# Altium schematic symbol library crdio_schlib.schlib: 15 symbols
Pins are listed as number, name and electrical type; pins without a type are passive.

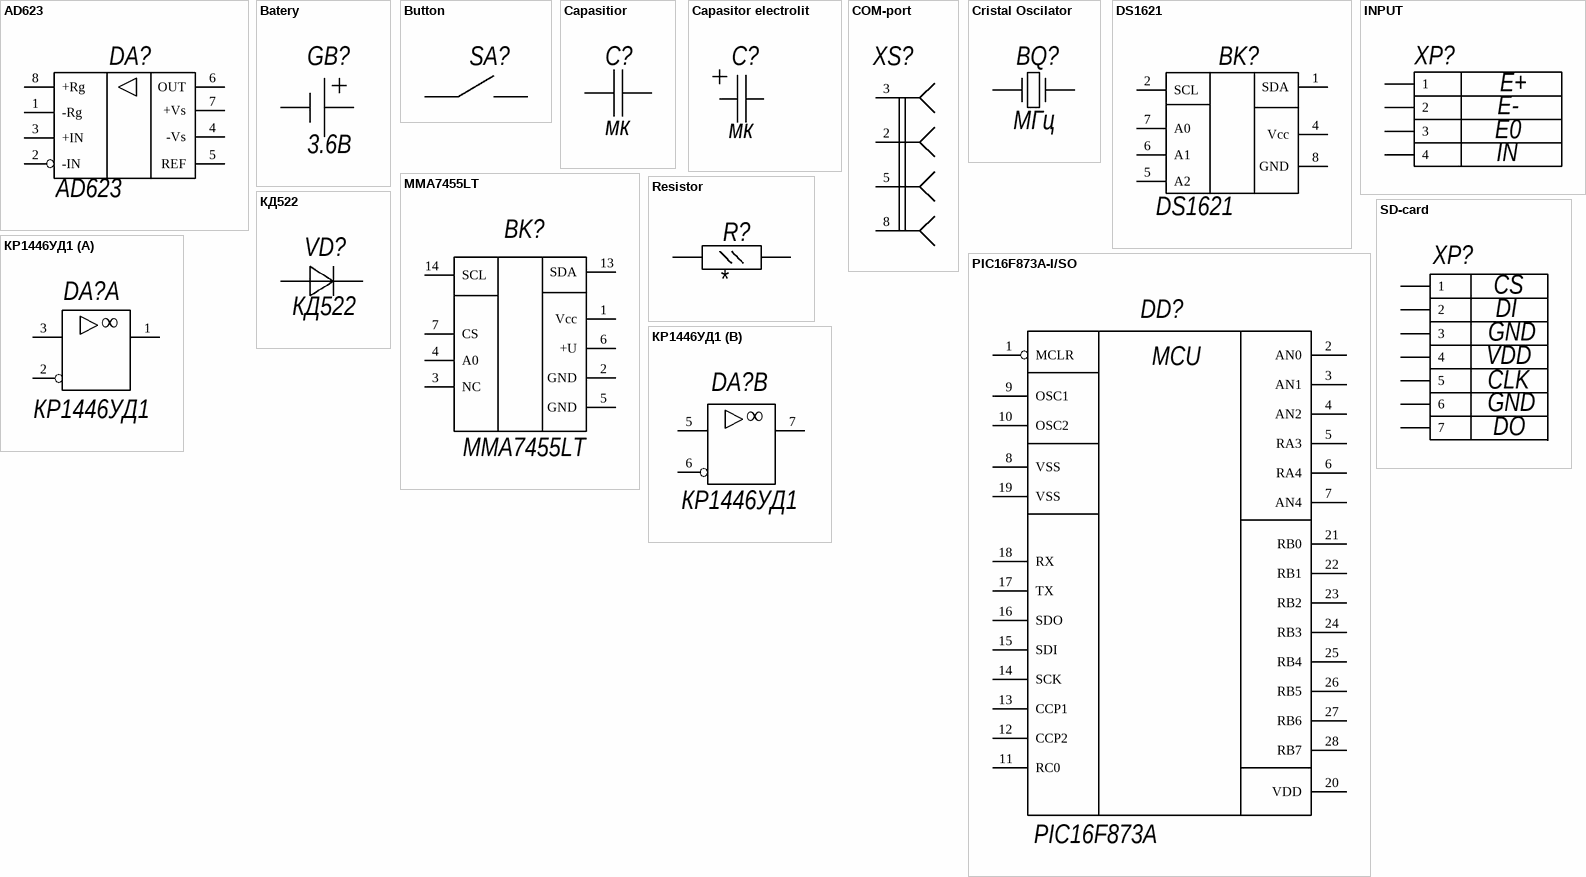
[diagram p0: symbols AD623 to КР1446УД1]

## AD623
designator DA?
Amplifier
footprint SOIC-8CM (SOIC, 8-Leads, Body 4.9x3.9mm, Pitch 1.27mm, IPC Low Density)
pins: 1 -Rg, 2 -IN, 3 +IN, 4 -Vs, 5 REF, 6 OUT, 7 +Vs, 8 +Rg

## Batery
designator GB?, comment 3.6B
footprint Button
pins: 1, 2

## Button
designator SA?  (value not drawn)
footprint Button
pins: 1, 2

## Capasitior
designator C?, comment мк
footprint C0805 (Chip Capacitor; Body 2.0 x 1.2 mm (LxW typ))
pins: 1, 2

## Capasitor electrolit
designator C?, comment мк
footprint LZ 12x26 1000 мкФ x 25 В (D=12.0 d=0.7 S=4.4)
pins: 1, 2

## COM-port
designator XS?  (value not drawn)
pins: 2, 3, 5, 8

## Cristal Oscilator
designator BQ?, comment МГц
footprint HC49S
pins: 1, 2

## DS1621
designator BK?
Temperature sensor
footprint SOIC-8CM (SOIC, 8-Leads, Body 4.9x3.9mm, Pitch 1.27mm, IPC Low Density)
pins: 1 SDA, 2 SCL, 4 Vcc, 5 A2, 6 A1, 7 A0, 8 GND

## INPUT
designator XP?  (value not drawn)
footprint HDR1X4 - WA (Разъем двухрядный, шаг 2,54 мм.)
pins: 1, 2, 3, 4
text: E+; E-; E0; IN

## MMA7455LT
designator BK?
Digital Output Accelerometer
footprint SOJ80P300X0-12M (SOJ, 12-Leads, Body 5,00x3,00mm, Pitch 0,80mm, IPC Low Density)
pins: 1 Vcc, 2 GND, 3 NC, 4 A0, 5 GND, 6 +U, 7 CS, 13 SDA, 14 SCL

## PIC16F873A-I/SO
designator DD?, comment PIC16F873A
Enhanced FLASH Microcontroller, 4K (x14-Bit words) FLASH, 192 Bytes RAM, 28-Pin SOIC, Standard VDD Range, Industrial Temperature; ComponentAvailability: Unknown. Contact manufacturer to determine status.; Published: 11-Oct-2004; LatestRevisionDate: 29-Jan-2009; LatestRevisionNote: Sch. layout revised. 3D Model Removed.; DatasheetVersion: revB, Oct-2003; PackageVersion: revBB, Aug-2009; PackageReference: SOIC-SO28; Publisher: Altium Limited; PackageDescription: 28-Lead Plastic Small Outline (SO) - Wide 7.50mm Body [SOIC]; Supplier 1: Digi-Key; Supplier Part Number 1: PIC16F873A-I/SO-ND; Supplier 2: Farnell; Supplier Part Number 2: 1660034; Supplier 3: Farnell; Supplier Part Number 3: 9761080; Code_JEDEC: MS-013; ComponentLink1Description: Datasheet; ComponentLink1URL: http://ww1.microchip.com/downloads/en/DeviceDoc/39582b.pdf; ComponentLink2Description: Packaging Specification; ComponentLink2URL: http://www.microchip.com/stellent/groups/techpub_sg/documents/packagingspec/en012702.pdf; ComponentLink3Description: Microchip.com Home; ComponentLink3URL: http://www.microchip.com/
footprint SOIC-SO28_M (SOIC, 28-Leads, Body 17.9x7.5mm, Pitch 1.27mm, IPC Low Density)
pins: 1 MCLR, 2 AN0, 3 AN1, 4 AN2, 5 RA3, 6 RA4, 7 AN4, 8 VSS, 9 OSC1, 10 OSC2, 11 RC0, 12 CCP2, 13 CCP1, 14 SCK, 15 SDI, 16 SDO, 17 TX, 18 RX, 19 VSS, 20 VDD, 21 RB0, 22 RB1, 23 RB2, 24 RB3, 25 RB4, 26 RB5, 27 RB6, 28 RB7
text: MCU

## Resistor
designator R?
footprint 1206 (Chip Resistor; Body 3.1 x 1.6 mm (LxW typ))
pins: 1, 2

## SD-card
designator XP?
footprint HDR2X4 - wide area (Connector; Header; 4x2 Position)
pins: 1, 2, 3, 4, 5, 6, 7
text: CS; DI; GND; VDD; CLK; DO

## КД522
designator VD?
footprint DO-41 (Diode, Axial; Body 5.2 x 2.7 mm (LxDia. max), Lead Dia. 0.86 mm (max))
pins: 1, 2

## КР1446УД1
designator DA?
footprint PDIP8
part A pins: 1, 2 (power), 3
part B pins: 5 3, 6 2 (power), 7 1
part A text: ∞
part B text: ∞